# EAGLE library part WE-RJ45_7499410213 (library 74980104400_Eagle_WE-RJ45_rev19b)
WE-RJ45 LAN Transformer Characteristics RJ45 Connector with integrated transformer / common mode choke Power over Ethernet up to 50 Watt and speeds up to 10 Gbit/s Available in SMD, THT and THT with USB Compliant with standards: IEEE 802.3u, IEEE 802.3ab, IEEE 802.3af, IEEE 802.3at, IEEE 802.3an and upcoming IEE 802.3bt Applications Suitable for industrial temperatures from –40 °C up to +85 °C Compatible to Industrial Ethernet systems like EtherCAT or Profinet Compliant with most IC’s for Ethernet applications such as Microchip, Texas Instruments, Broadcom, Linear Technology Hubs, Routers, Switches, IP cameras, IoT applications <https://katalog.we-online.com/media/images/v2/o35731v209%20Family_WE-RJ45-LAN.jpg> Details see: https://katalog.we-online.com/en/pbs/WE-LAN-RJ45 Updated by Ella Wu 2019-08-05 2019 (C) Wurth Elektronik
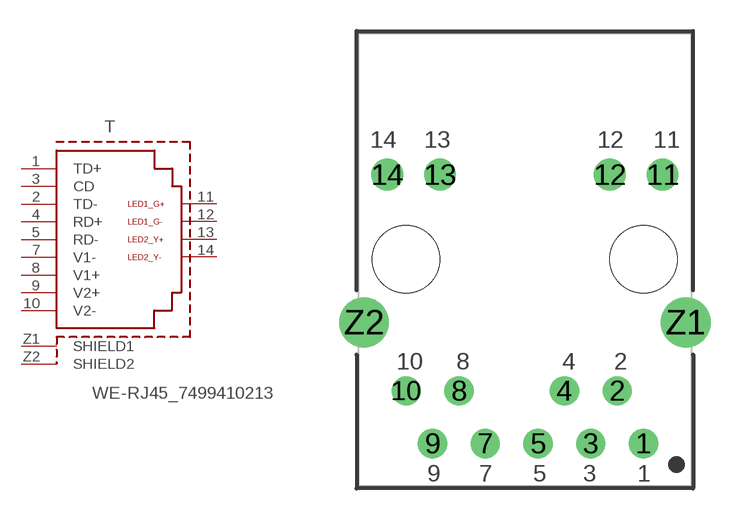
[diagram p60: symbol with the pads of 7499410213; footprint 7499410213]

Designator prefix T

## WE-RJ45_7499410213 (DATA-RATE: 10/100 Base-T; DATASHEET-URL: https://katalog.we-online.com/pbs/datasheet/7499410213.pdf; LED: yellow-green; MOUNT: THT; PART-NUMBER: 7499410213; POE: PoE+ (up to 600 mA); PORTS: 1; USB: No)  [7499410213]
1  TD+
2  TD-
3  CD
4  RD+
5  RD-
7  V1-
8  V1+
9  V2+
10  V2-
11  LED1_G+  pas
12  LED1_G-  pas
13  LED2_Y+  pas
14  LED2_Y-  pas
Z1  SHIELD1  pwr
Z2  SHIELD2  pwr

## Footprint 7499410213 (pad centres in mm)
WE-RJ45 LAN Transformer 10/100 Base-T
drill 0.9: 1 5.715,-8.89; 2 4.445,-6.35; 3 3.175,-8.89; 4 1.905,-6.35; 5 0.635,-8.89; 7 -1.905,-8.89; 8 -3.175,-6.35; 9 -4.445,-8.89; 10 -5.715,-6.35
drill 1.02: 11 6.63,4.08; 12 4.09,4.08; 13 -4.09,4.08; 14 -6.63,4.08
drill 1.6: Z1 7.745,-3.05; Z2 -7.745,-3.05
hole 3.25 at -5.715,0
hole 3.25 at 5.715,0